# Altium schematic symbol library IC_RELAY_2_FORM_C.SchLib: 2 symbols
Pins are listed as number, name and electrical type; pins without a type are passive.

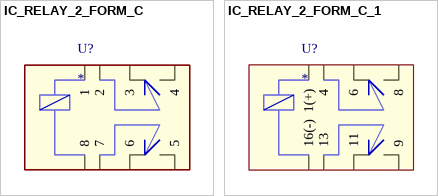
[diagram p0: symbols IC_RELAY_2_FORM_C to IC_RELAY_2_FORM_C_1]

## IC_RELAY_2_FORM_C
designator U?
pins: 1, 2, 3, 4, 5, 6, 7, 8

## IC_RELAY_2_FORM_C_1
designator U?
pins: 1 1(+), 4, 6, 8, 9, 11, 13, 16 16(-)